# Altium integrated library ASP-184330-01_EXT.IntLib: 1 symbol
Pins are listed as number, name and electrical type; pins without a type are passive.

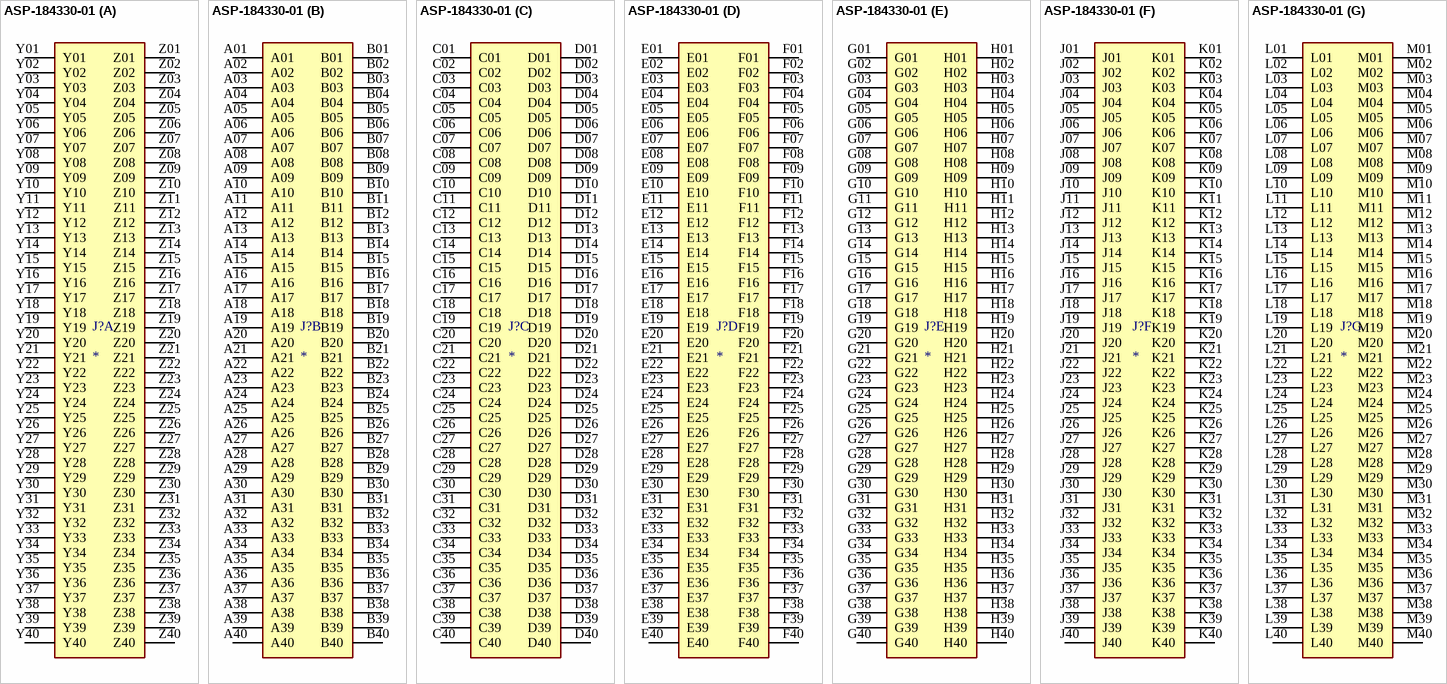
[diagram p0: symbol ASP-184330-01]

## ASP-184330-01
designator J?
Position Connector High Density Array, Male Surface Mount Gold; MF: Samtec; MP: ASP-184330-01; Value: *; Availability: Warning; Price: None; SnapEDA_Link: https://www.snapeda.com/parts/ASP-184330-01/Samtec/view-part/4835493/?ref=snap; Check_prices: https://www.snapeda.com/parts/ASP-184330-01/Samtec/view-part/4835493/?ref=eda; Purchase-URL: https://pricing.snapeda.com/search/part/ASP-184330-01/?ref=eda; Package: None
footprint SAMTEC_ASP-184330-01
part A pins: Y01, Y02, Y03, Y04, Y05, Y06, Y07, Y08, Y09, Y10, Y11, Y12, Y13, Y14, Y15, Y16, Y17, Y18, Y19, Y20, Y21, Y22, Y23, Y24, Y25, Y26, Y27, Y28, Y29, Y30, Y31, Y32, Y33, Y34, Y35, Y36, Y37, Y38, Y39, Y40, Z01, Z02, Z03, Z04, Z05, Z06, Z07, Z08, Z09, Z10, Z11, Z12, Z13, Z14, Z15, Z16, Z17, Z18, Z19, Z20, Z21, Z22, Z23, Z24, Z25, Z26, Z27, Z28, Z29, Z30, Z31, Z32, Z33, Z34, Z35, Z36, Z37, Z38, Z39, Z40
part B pins: A01, A02, A03, A04, A05, A06, A07, A08, A09, A10, A11, A12, A13, A14, A15, A16, A17, A18, A19, A20, A21, A22, A23, A24, A25, A26, A27, A28, A29, A30, A31, A32, A33, A34, A35, A36, A37, A38, A39, A40, B01, B02, B03, B04, B05, B06, B07, B08, B09, B10, B11, B12, B13, B14, B15, B16, B17, B18, B19, B20, B21, B22, B23, B24, B25, B26, B27, B28, B29, B30, B31, B32, B33, B34, B35, B36, B37, B38, B39, B40
part C pins: C01, C02, C03, C04, C05, C06, C07, C08, C09, C10, C11, C12, C13, C14, C15, C16, C17, C18, C19, C20, C21, C22, C23, C24, C25, C26, C27, C28, C29, C30, C31, C32, C33, C34, C35, C36, C37, C38, C39, C40, D01, D02, D03, D04, D05, D06, D07, D08, D09, D10, D11, D12, D13, D14, D15, D16, D17, D18, D19, D20, D21, D22, D23, D24, D25, D26, D27, D28, D29, D30, D31, D32, D33, D34, D35, D36, D37, D38, D39, D40
part D pins: E01, E02, E03, E04, E05, E06, E07, E08, E09, E10, E11, E12, E13, E14, E15, E16, E17, E18, E19, E20, E21, E22, E23, E24, E25, E26, E27, E28, E29, E30, E31, E32, E33, E34, E35, E36, E37, E38, E39, E40, F01, F02, F03, F04, F05, F06, F07, F08, F09, F10, F11, F12, F13, F14, F15, F16, F17, F18, F19, F20, F21, F22, F23, F24, F25, F26, F27, F28, F29, F30, F31, F32, F33, F34, F35, F36, F37, F38, F39, F40
part E pins: G01, G02, G03, G04, G05, G06, G07, G08, G09, G10, G11, G12, G13, G14, G15, G16, G17, G18, G19, G20, G21, G22, G23, G24, G25, G26, G27, G28, G29, G30, G31, G32, G33, G34, G35, G36, G37, G38, G39, G40, H01, H02, H03, H04, H05, H06, H07, H08, H09, H10, H11, H12, H13, H14, H15, H16, H17, H18, H19, H20, H21, H22, H23, H24, H25, H26, H27, H28, H29, H30, H31, H32, H33, H34, H35, H36, H37, H38, H39, H40
part F pins: J01, J02, J03, J04, J05, J06, J07, J08, J09, J10, J11, J12, J13, J14, J15, J16, J17, J18, J19, J20, J21, J22, J23, J24, J25, J26, J27, J28, J29, J30, J31, J32, J33, J34, J35, J36, J37, J38, J39, J40, K01, K02, K03, K04, K05, K06, K07, K08, K09, K10, K11, K12, K13, K14, K15, K16, K17, K18, K19, K20, K21, K22, K23, K24, K25, K26, K27, K28, K29, K30, K31, K32, K33, K34, K35, K36, K37, K38, K39, K40
part G pins: L01, L02, L03, L04, L05, L06, L07, L08, L09, L10, L11, L12, L13, L14, L15, L16, L17, L18, L19, L20, L21, L22, L23, L24, L25, L26, L27, L28, L29, L30, L31, L32, L33, L34, L35, L36, L37, L38, L39, L40, M01, M02, M03, M04, M05, M06, M07, M08, M09, M10, M11, M12, M13, M14, M15, M16, M17, M18, M19, M20, M21, M22, M23, M24, M25, M26, M27, M28, M29, M30, M31, M32, M33, M34, M35, M36, M37, M38, M39, M40